# EAGLE library part 2450BM14A0002T (library 2450BM14A0002T)
JOHANSON TECHNOLOGY - 2450BM14A0002T - BALUN, 2.45GHZ, IMPEDANCE MATCHED Source: Datasheet
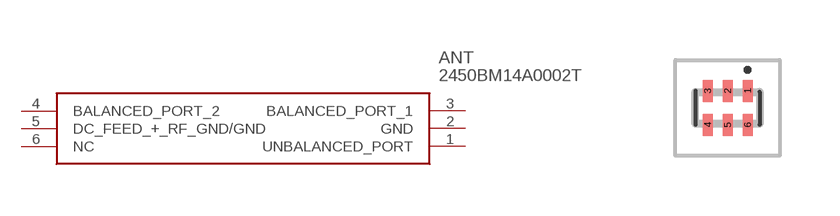
[diagram p0: symbol with the pads of 2450BM14A0002T; footprint 2450BM14A0002T]

Designator prefix ANT

## 2450BM14A0002T (Description: JOHANSON TECHNOLOGY - 2450BM14A0002T - BALUN, 2.45GHZ, IMPEDANCE MATCHED; Height: 0.7mm; Manufacturer_Name: JOHANSON TECHNOLOGY; Manufacturer_Part_Number: 2450BM14A0002T; Mouser_Part_Number: 609-2450BM14A0002T; Mouser_Price-Stock: https://www.mouser.co.uk/ProductDetail/Johanson-Technology/2450BM14A0002T?qs=yCnrNFeXz%252Bjc2NrpGmrycg%3D%3D)  [2450BM14A0002T]
1  UNBALANCED_PORT
2  GND
3  BALANCED_PORT_1
4  BALANCED_PORT_2
5  DC_FEED_+_RF_GND/GND
6  NC  nc

## Footprint 2450BM14A0002T (pad centres in mm)
2450BM14A0002T-3
smd 0.25 x 0.55: 1 0.5,0.425; 2 0,0.425; 3 -0.5,0.425; 4 -0.5,-0.425; 5 0,-0.425; 6 0.5,-0.425